# EAGLE library part 1554СП1 (library std-logic-1554series)
АЕЯР.431200.182-02 ТУ 1554СП1 - Схема сравнения двух четырехразрядных чисел. Изготовитель: ОАО "ИНТЕГРАЛ", г. Минск, р. Беларусь. Технические условия (ТБМ): АЕЯР.431200.182-02 ТУ Технические условия (не ТБМ): АЕЯР.431200.093-01 ТУ
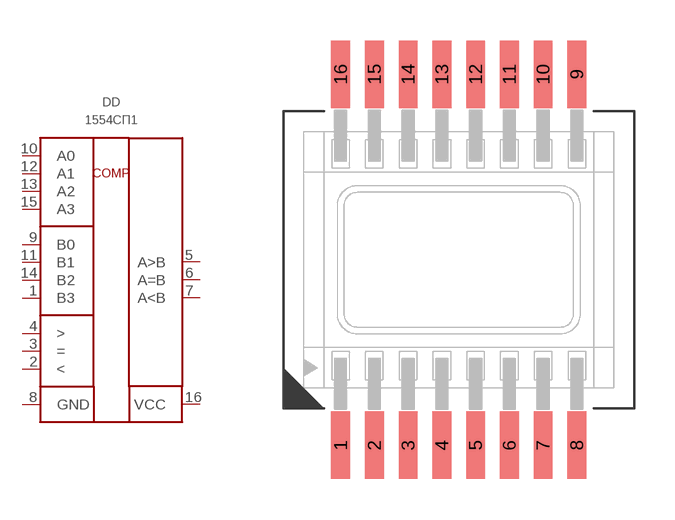
[diagram p26: symbol with the pads of 402.16-32; footprint 402.16-32]

Designator prefix DD

## 1554СП1ТБМ  [402.16-32]
1  B3  in
2  <  in
3  =  in
4  >  in
5  A>B  out
6  A=B  out
7  A<B  out
8  GND  pwr
9  B0  in
10  A0  in
11  B1  in
12  A1  in
13  A2  in
14  B2  in
15  A3  in
16  VCC  pwr

## Footprint 402.16-32 (pad centres in mm)
smd 0.7 x 2.5: 1 -4.375,-6.875; 2 -3.125,-6.875; 3 -1.875,-6.875; 4 -0.625,-6.875; 5 0.625,-6.875; 6 1.875,-6.875; 7 3.125,-6.875; 8 4.375,-6.875; 9 4.375,6.875; 10 3.125,6.875; 11 1.875,6.875; 12 0.625,6.875; 13 -0.625,6.875; 14 -1.875,6.875; 15 -3.125,6.875; 16 -4.375,6.875